# Altium schematic symbol library 3SWO-CT-32.768.SchLib: 1 symbol
Pins are listed as number, name and electrical type; pins without a type are passive.

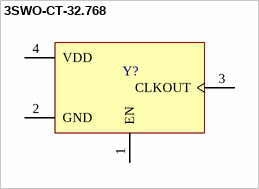
[diagram p0: symbol 3SWO-CT-32.768]

## 3SWO-CT-32.768
designator Y?
MP: OM-7605-C8-32.768KHZ-20PPM-TA-QC; MF: Micro Crystal AG; Availability: In Stock; Purchase-URL: https://pricing.snapeda.com/search/part/OM-7605-C8-32.768KHZ-20PPM-TA-QC/?ref=eda; Package: SMT-4 Micro Crystal; SnapEDA_Link: https://www.snapeda.com/parts/OM-7605-C8-32.768KHZ-20PPM-TA-QC/Micro%20Crystal/view-part/4986280/?ref=snap; Price: None; Check_prices: https://www.snapeda.com/parts/OM-7605-C8-32.768KHZ-20PPM-TA-QC/Micro%20Crystal/view-part/4986280/?ref=eda; Value: *
footprint OSC_OM-7605-C8-32.768KHZ-20PPM-TA-QC
pins: 1 EN, 2 GND, 3 CLKOUT, 4 VDD